# EAGLE library part TRIPLE-4+IN-OR (library TM by Logic Circuit)
Triple 3-input NOR gate
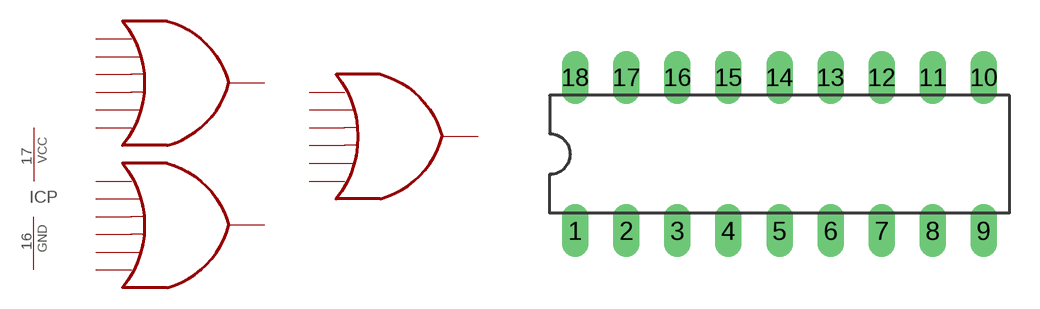
[diagram p2: symbol with the pads of DIL18; footprint DIL18]

Designator prefix IC; gates A=4+IN-OR B=4+IN-OR C=4+IN-OR P=PWRN

## TRIPLE-4+IN-OR  [DIL18]
1  A:I0  in
2  A:I1  in
3  A:I2  in
4  A:I3  in
5  A:O  out
6  B:I0  in
7  B:I1  in
8  B:I2  in
9  B:I3  in
10  B:O  out
11  C:I0  in
12  C:I1  in
13  C:I2  in
14  C:I3  in
15  C:O  out
16  P:GND  pwr
17  P:VCC  pwr

## Footprint DIL18 (pad centres in mm)
Dual In Line Package
drill 0.813 long: 1 -10.16,-3.81; 2 -7.62,-3.81; 3 -5.08,-3.81; 4 -2.54,-3.81; 5 0,-3.81; 6 2.54,-3.81; 7 5.08,-3.81; 8 7.62,-3.81; 9 10.16,-3.81; 10 10.16,3.81; 11 7.62,3.81; 12 5.08,3.81; 13 2.54,3.81; 14 0,3.81; 15 -2.54,3.81; 16 -5.08,3.81; 17 -7.62,3.81; 18 -10.16,3.81